# Altium footprint library C655_Main_Board_EK.PcbLib: 44 footprints (part 1 of 3)
Each footprint in its own frame and in the unit in brackets; x right, y up, seen from the top. Pads: shape width x height; smd on the part's side, far side on the other; paste and mask are expansions set on the pad; w line width, h text height; cw(c..) or ccw(c..) is an arc to the next point about the centre after c.
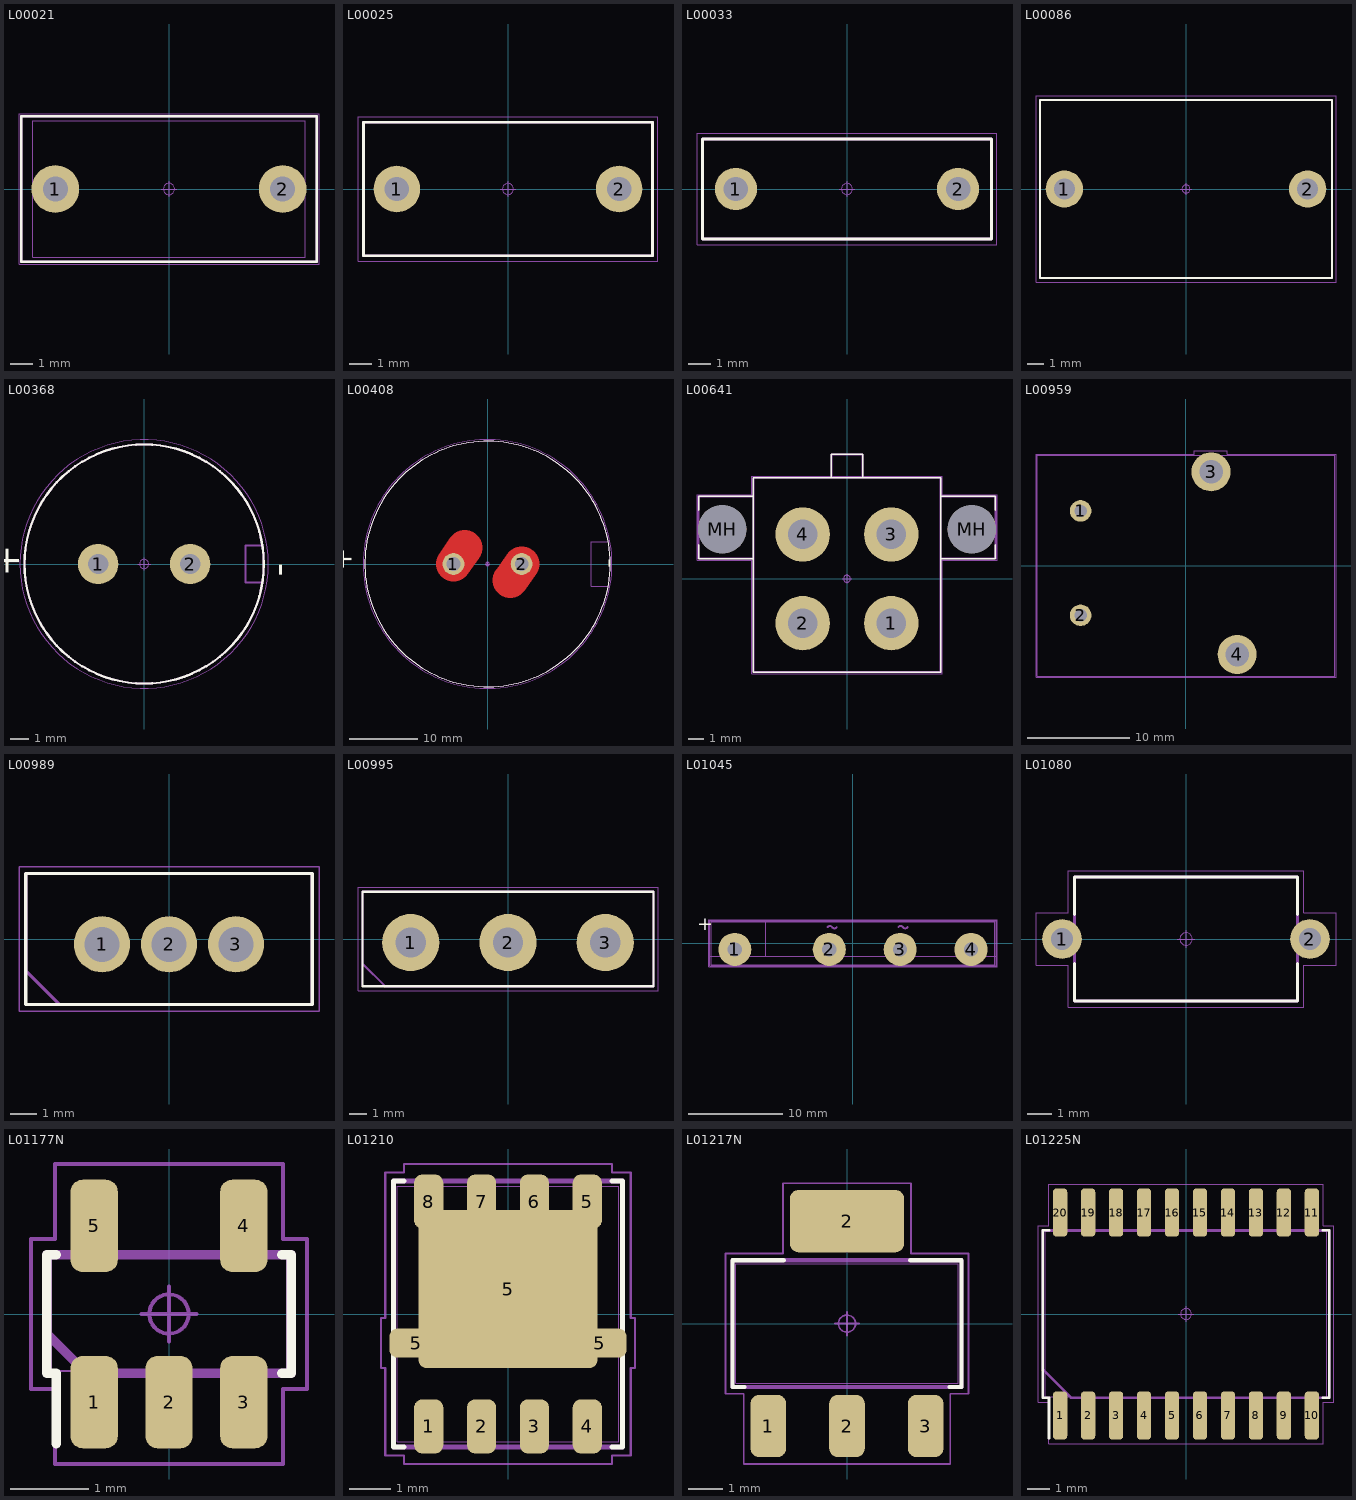
[diagram p0: the footprints below, top view; thin cyan lines are the x and y axes]

## L00021 [mm]
height 12
pads (2):
  round 2.1 hole 1.1: 1(-5,0) 2(5,0)
Top Overlay:
  lines w0.1: -6.5,-3.2 6.5,-3.2 6.5,3.2 -6.5,3.2 -6.5,-3.2
Top Assembly:
  lines w0.12: -6.5,-3.2 6.5,-3.2 6.5,3.2 -6.5,3.2 -6.5,-3.2
  text ".Designator" at -4.572,-0.889 h2
Top Courtyard:
  circle w0.05: c0,0 r0.25
  lines w0.05: -0.35,0 0.35,0 ; 0,-0.35 0,0.35 ; -6.6,-3.3 6.6,-3.3 6.6,3.3 -6.6,3.3 -6.6,-3.3 ; -6,-3 6,-3 6,3 -6,3 -6,-3
3D body "B32921C3104M.step": height 12, standoff -3.6, extent -6.5,-3.2 6.5,3.2

## L00025 [mm] "CAPRR1000W60L1300T600H1100"
height 11
pads (2):
  round 2.1 hole 1.1 paste-2.1: 1(-5,0) 2(5,0)
Top Overlay:
  lines w0.12: -6.5,-3 6.5,-3 6.5,3 -6.5,3 -6.5,-3
Top Assembly:
  lines w0.12: -6.5,-3 6.5,-3 6.5,3 -6.5,3 -6.5,-3
  text ".Designator" at -3.3,-0.6 h1.5
Top Courtyard:
  circle w0.05: c0,0 r0.25
  lines w0.05: -0.35,0 0.35,0 ; 0,-0.35 0,0.35 ; -6.75,-3.25 -6.75,3.25 6.75,3.25 6.75,-3.25 -6.75,-3.25
Mechanical 31:
  circle w0.025: c5,0 r0.325
  circle w0.025: c-5,0 r0.325
  lines w0.025: -6.5,-3 6.5,-3 6.5,3 -6.5,3 -6.5,-3
3D body "CAPRR1000W60L1300T600H1100.STEP": height 11, standoff -2, extent -6.5,-3 6.5,3

## L00033 [mm] "CAPRR1000W60L1300T450H900"
height 9
pads (2):
  round 1.9 hole 1.1 paste-1.9: 1(-5,0) 2(5,0)
Top Overlay:
  lines w0.12: -6.5,-2.25 -6.5,2.25 6.5,2.25 6.5,-2.25 -6.5,-2.25
Top Assembly:
  lines w0.12: -6.5,-2.25 -6.5,2.25 6.5,2.25 6.5,-2.25 -6.5,-2.25
  text ".Designator" at -3.3,-0.6 h1.5
Top Courtyard:
  circle w0.05: c0,0 r0.25
  lines w0.05: -0.35,0 0.35,0 ; 0,-0.35 0,0.35 ; -6.75,-2.5 6.75,-2.5 6.75,2.5 -6.75,2.5 -6.75,-2.5
Mechanical 31:
  circle w0.025: c-5,0 r0.325
  circle w0.025: c5,0 r0.325
  lines w0.025: -6.5,-2.25 -6.5,2.25 6.5,2.25 6.5,-2.25 -6.5,-2.25
3D body "CAPRR1000W60L1300T450H900.STEP": height 9, standoff -2, extent -6.5,-2.25 6.5,2.25

## L00086 [mm] "CAPRR1500W80L1800T1100H1850"
height 18.5
pads (2):
  round 2.3 hole 1.3 paste-2.3: 1(-7.5,0) 2(7.5,0)
Top Overlay:
  lines w0.12: -9,-5.5 9,-5.5 9,5.5 -9,5.5 -9,-5.5
Top Assembly:
  lines w0.12: -9,-5.5 9,-5.5 9,5.5 -9,5.5 -9,-5.5
  text ".Designator" at -3.4,-0.6 h1.5
Top Courtyard:
  circle w0.05: c0,0 r0.25
  lines w0.05: -0.35,0 0.35,0 ; 0,-0.35 0,0.35 ; -9.25,-5.75 -9.25,5.75 9.25,5.75 9.25,-5.75 -9.25,-5.75
Mechanical 31:
  circle w0.025: c7.5,0 r0.425
  circle w0.025: c-7.5,0 r0.425
  lines w0.025: -9,-5.5 9,-5.5 9,5.5 -9,5.5 -9,-5.5
3D body "CAPRR1500W80L1800T1100H1850.STEP": height 18.5, standoff -2, extent -9,-5.5 9,5.5

## L00368 [mm] "CAPPRD500W60D1300H2700"
height 27
pads (2):
  round 2.2 hole 1.1 paste-2.2: 1(-2.5,0) 2(2.5,0)
Top Overlay:
  circle w0.12: c0,0 r6.5
  text "-" at 8,-0.7 h1.5
  text "+" at -6.8,-0.7 h1.5
Top Assembly:
  circle w0.12: c0,0 r6.5
  lines w0.12: 6.4,-1 5.5,-1 5.5,1 6.4,1
  text ".Designator" at -3.3,-0.6 h1.5
  text "+" at -5.1,-0.4 h2
  text "-" at 6.5,-0.2 h2
Top Courtyard:
  circle w0.05: c0,0 r0.25
  circle w0.05: c0,0 r6.75
  lines w0.05: -0.35,0 0.35,0 ; 0,-0.35 0,0.35
Mechanical 31:
  circle w0.025: c0,0 r6.5
  circle w0.025: c2.5,0 r0.325
  circle w0.025: c-2.5,0 r0.325
3D body "CAPPRD500W60D1300H2700.STEP": height 27.01, standoff -2, extent -6.5,-6.5 6.51,6.5

## L00408 [mm] "CAPPRD1000W170D3600H4700"
height 47
pads (2):
  round 3.2 hole 2 paste-3.2: 1(-5,0) 2(5,0)
Top Layer:
  lines w5.2: -4.995,0 -3.345,2.375 ; 3.355,-2.375 5.005,0
Top Overlay:
  circle w0.12: c0,0 r18
  text "-" at 20.005,-0.6 h5
  text "+" at -19,-1 h5
Top Assembly:
  circle w0.12: c0,0 r18
  lines w0.12: 17.705,-3.3 15.205,-3.3 15.205,3.3 17.705,3.3
  text ".Designator" at -3.4,-0.6 h1.5
  text "+" at -14,-1 h5
  text "-" at 17.905,-0.6 h5
Top Courtyard:
  circle w0.05: c0,0 r0.25
  circle w0.05: c0,0 r18.25
  lines w0.05: -0.35,0 0.35,0 ; 0,-0.35 0,0.35
Mechanical 31:
  circle w0.025: c0,0 r18
  circle w0.025: c5,0 r0.9
  circle w0.025: c-5,0 r0.9
3D body "CAPPRD1000W170D3600H4700.STEP": height 47.01, standoff -2, extent -18,-18 18.01,18

## L00641 [mm]
height 15
pads (6):
  round 3.5 / inner round 3.3 / far side round 3.5 hole 1.9: 1(2.85,-2.85) 2(-2.85,-2.85) 3(2.85,2.85) 4(-2.85,2.85)
  round 3.1 hole 3.1 unplated: MH(-8.02,3.18) MH(8.02,3.18)
Top Overlay:
  lines w0.1: -9.55,2.2 -9.55,1.3 -6.025,1.3 ; -9.55,4.4 -9.55,5.3 -6.025,5.3 ; -1,6.5 -1,8 1,8 1,6.5 ; 6.025,1.3 9.55,1.3 9.55,2.2 ; 6.025,5.3 9.55,5.3 9.55,4.4 ; -6.025,-6 6.025,-6 6.025,6.5 -6.025,6.5 -6.025,-6
Top Assembly:
  lines w0.12: -6.025,1.3 -9.55,1.3 -9.55,5.3 -6.025,5.3 ; -1,6.5 -1,8 1,8 1,6.5 ; 6.025,1.3 9.55,1.3 9.55,5.3 6.025,5.3 ; -6.025,-6 -6.025,6.5 6.025,6.5 6.025,-6 -6.025,-6
  text ".Designator" at -4.5,-0.8 h2
Top Courtyard:
  circle w0.05: c0,0 r0.225
  lines w0.05: -0.3,0 0.3,0 ; 0,-0.3 0,0.3 ; -9.65,1.2 -9.65,5.4 -6.125,5.4 -6.125,6.6 6.125,6.6 6.125,5.4 9.65,5.4 9.65,1.2 6.125,1.2 6.125,-6.1 -6.125,-6.1 -6.125,1.2 -9.65,1.2
3D body "1720650004.stp": height 14.78, standoff -3.8, extent -9.571,-6.151 9.521,7.883

## L00959 [mm]
height 15.7
pads (4):
  round 2.1 hole 1.2: 1(-10.26,5.34) 2(-10.26,-4.82)
  round 3.8 hole 2.3: 3(2.44,9.15) 4(4.98,-8.63)
Top Assembly:
  lines w0.12: -14.5,-10.75 -14.5,10.75 14.5,10.75 14.5,-10.75 -14.5,-10.75
  text ".Designator" at -3.4,-0.6 h1.5
Top Courtyard:
  lines w0.05: -14.6,-10.85 14.6,-10.85 14.6,10.85 4,10.85 4,11.2 0.8,11.2 0.8,10.85 -14.6,10.85 -14.6,-10.85
3D body "c-1558661-4-a-3d.stp": height 15.7, standoff -3.25, extent -14.45,-10.7 14.45,10.7

## L00989 [mm] "TO250P1070X490X2010-3"
height 20.1
pads (3):
  round 2.1 hole 1.3 paste-2.1: 1(-2.5,-0.2) 2(0,-0.2) 3(2.5,-0.2)
Top Overlay:
  lines w0.12: -5.35,-2.45 5.35,-2.45 5.35,2.45 -5.35,2.45 -5.35,-2.45
Top Assembly:
  lines w0.12: -5.35,-1.18 -5.35,2.45 5.35,2.45 5.35,-2.45 -4.08,-2.45 -5.35,-1.18
  text ".Designator" at 0,0 h1.2
Top Courtyard:
  circle w0.05: c0,0 r0.25
  lines w0.05: -0.35,0 0.35,0 ; 0,-0.35 0,0.35 ; -5.6,-2.7 -5.6,2.7 5.6,2.7 5.6,-2.7 -5.6,-2.7
Mechanical 31:
  lines w0.025: -5.35,-2.45 5.35,-2.45 5.35,2.45 -5.35,2.45 -5.35,-2.45 ; -2.94,-0.55 -2.94,0.15 -2.06,0.15 -2.06,-0.55 -2.94,-0.55 ; -0.44,-0.55 -0.44,0.15 0.44,0.15 0.44,-0.55 -0.44,-0.55 ; 2.06,-0.55 2.06,0.15 2.94,0.15 2.94,-0.55 2.06,-0.55
3D body "TO250P1070X490X2010-3.STEP": height 20.1, standoff -2, extent -5.35,-2.45 5.35,2.45

## L00995 [mm] "TO545P1630X530X2560-3"
height 25.6
pads (3):
  round 3.2 hole 1.7 paste-3.2: 1(-5.45,-0.2) 2(0,-0.2) 3(5.45,-0.2)
Top Overlay:
  lines w0.12: -8.15,-2.65 -8.15,2.65 8.15,2.65 8.15,-2.65 -8.15,-2.65
Top Assembly:
  lines w0.12: -8.15,-1.38 -6.88,-2.65 8.15,-2.65 8.15,2.65 -8.15,2.65 -8.15,-1.38
  text ".Designator" at -3.4,-0.6 h1.5
Top Courtyard:
  circle w0.05: c0,0 r0.25
  lines w0.05: -0.35,0 0.35,0 ; 0,-0.35 0,0.35 ; -8.4,-2.9 8.4,-2.9 8.4,2.9 -8.4,2.9 -8.4,-2.9
Mechanical 31:
  lines w0.025: -8.15,-2.65 -8.15,2.65 8.15,2.65 8.15,-2.65 -8.15,-2.65 ; -6.115,-0.54 -4.785,-0.54 -4.785,0.14 -6.115,0.14 -6.115,-0.54 ; -0.665,-0.54 0.665,-0.54 0.665,0.14 -0.665,0.14 -0.665,-0.54 ; 4.785,-0.54 6.115,-0.54 6.115,0.14 4.785,0.14 4.785,-0.54
3D body "TO545P1630X530X2560-3.STEP": height 25.6, standoff -2, extent -8.15,-2.65 8.15,2.65

## L01045 [mm]
height 24.5
pads (4):
  round 3.5 hole 1.5 unplated: 1(-12.5,-0.65) 2(-2.5,-0.65) 3(5,-0.65) 4(12.5,-0.65)
Top Overlay:
  text "+" at -16.5,0.9 h2.5
Top Assembly:
  lines w0.12: -15.15,-1.35 15.15,-1.35 ; -9.2,-1.35 -9.2,2.4 ; -15.15,-2.4 -15.15,2.4 15.15,2.4 15.15,-2.4 -15.15,-2.4
  lines w0.2: -2.692,1.7 cw(c-2.446,1.528) -2.2,1.7 ccw(c-1.954,1.872) -1.708,1.7 ; 4.808,1.7 cw(c5.054,1.528) 5.3,1.7 ccw(c5.546,1.872) 5.792,1.7
  text "-" at 11.975,0.725 h1.5
  text "+" at -13.025,0.725 h1.5
  text ".Designator" at -3.4,-0.6 h1.5
Top Courtyard:
  lines w0.05: -15.25,-2.5 -15.25,2.5 15.25,2.5 15.25,-2.5 -15.25,-2.5
Mechanical 31:
  lines w0.05: -15,-2.3 -15,2.3 15,2.3 15,-2.3 -15,-2.3
3D body "GBJ.STP": height 24, standoff -13.5, extent -15,-2.35 15,2.35

## L01080 [mm] "CAPRB1000W60L900T500H1200"
height 12
pads (2):
  round 1.6 hole 0.9 paste-1.6: 1(-5,0) 2(5,0)
Top Overlay:
  lines w0.12: -4.5,-0.98 -4.5,-2.5 4.5,-2.5 4.5,-0.98 ; -4.5,0.98 -4.5,2.5 4.5,2.5 4.5,0.98
Top Assembly:
  lines w0.12: -4.5,-2.5 -4.5,2.5 4.5,2.5 4.5,-2.5 -4.5,-2.5
  text ".Designator" at -3.3,-0.6 h1.5
Top Courtyard:
  circle w0.05: c0,0 r0.25
  lines w0.05: -0.35,0 0.35,0 ; 0,-0.35 0,0.35 ; -6.05,-1.05 -6.05,1.05 -4.75,1.05 -4.75,2.75 4.75,2.75 4.75,1.05 6.05,1.05 6.05,-1.05 4.75,-1.05 4.75,-2.75 -4.75,-2.75 -4.75,-1.05 -6.05,-1.05
Mechanical 31:
  circle w0.025: c-5,0 r0.325
  circle w0.025: c5,0 r0.325
  lines w0.025: -4.5,-2.5 -4.5,2.5 4.5,2.5 4.5,-2.5 -4.5,-2.5
3D body "CAPRB1000W60L900T500H1200.STEP": height 12, standoff -2, extent -5.3,-2.5 5.3,2.5

## L01177N [mm] "SOT23-5P95_275X110L40X37N"
height 1.1
pads (5):
  rrect50% 0.6x1.17 smd: 1(-0.95,-1.12) 2(0,-1.12) 3(0.95,-1.12) 4(0.95,1.12) 5(-0.95,1.12)
Top Overlay:
  lines w0.12: -1.43,-1.645 -1.43,-0.75 -1.55,-0.75 -1.55,0.75 -1.43,0.75 ; 1.43,-0.75 1.55,-0.75 1.55,0.75 1.43,0.75
Top Assembly:
  lines w0.12: -1.55,-0.25 -1.55,0.75 1.55,0.75 1.55,-0.75 -1.05,-0.75 -1.55,-0.25
  text ".Designator" at -2.7,-0.4 h1.2
Top Courtyard:
  circle w0.05: c0,0 r0.25
  lines w0.05: -0.35,0 0.35,0 ; 0,-0.35 0,0.35 ; -1.75,-0.95 -1.45,-0.95 -1.45,-1.905 1.45,-1.905 1.45,-0.95 1.75,-0.95 1.75,0.95 1.45,0.95 1.45,1.905 -1.45,1.905 -1.45,0.95 -1.75,0.95 -1.75,-0.95
Mechanical 31:
  lines w0.025: -1.5,-0.725 1.5,-0.725 1.5,0.725 -1.5,0.725 -1.5,-0.725 ; -1.138,-1.375 -1.138,-0.975 -0.763,-0.975 -0.763,-1.375 -1.138,-1.375 ; -1.138,0.975 -1.138,1.375 -0.763,1.375 -0.763,0.975 -1.138,0.975 ; -0.188,-1.375 -0.188,-0.975 0.188,-0.975 0.188,-1.375 -0.188,-1.375 ; 0.763,-1.375 0.763,-0.975 1.138,-0.975 1.138,-1.375 0.763,-1.375 ; 0.763,0.975 0.763,1.375 1.138,1.375 1.138,0.975 0.763,0.975
3D body "SOT23-5P95_275X110L40X37.STEP": height 1.1, standoff 0, extent -1.55,-1.5 1.55,1.5

## L01210 [mm] "SON8P127_532X615X110L58X42N"
height 1.1
pads (11):
  rrect55% 0.7x1.3 smd: 1(-1.905,-2.7) 2(-0.635,-2.7) 3(0.635,-2.7) 4(1.905,-2.7) 5(1.905,2.7) 6(0.635,2.7) 7(-0.635,2.7) 8(-1.905,2.7)
  rrect55% 1.3x0.7 smd: 5(-2.2,-0.7) 5(2.2,-0.7)
  rrect10% 4.3x3.8 smd: 5(0,0.6)
Top Overlay:
  lines w0.12: -2.5,-3.2 -2.75,-3.2 -2.75,3.2 -2.5,3.2 ; 2.5,-3.2 2.75,-3.2 2.75,3.2 2.5,3.2
Top Assembly:
  lines w0.12: -2.75,-3.2 -2.75,3.2 2.75,3.2 2.75,-3.2 -2.75,-3.2
  text ".Designator" at -2.7,-0.5 h1.2
Top Courtyard:
  circle w0.05: c0,0 r0.25
  lines w0.05: -0.35,0 0.35,0 ; 0,-0.35 0,0.35 ; -3.05,-1.3 -2.95,-1.3 -2.95,-3.4 -2.5,-3.4 -2.5,-3.605 2.5,-3.605 2.5,-3.4 2.95,-3.4 2.95,-1.3 3.05,-1.3 3.05,-0.1 2.95,-0.1 2.95,3.4 2.5,3.4 2.5,3.605 -2.5,3.605 -2.5,3.4 -2.95,3.4 -2.95,-0.1 -3.05,-0.1 -3.05,-1.3
Mechanical 31:
  lines w0.025: -2.662,-3.075 -2.662,3.075 2.662,3.075 2.662,-3.075 -2.662,-3.075 ; -2.117,-3.075 -1.693,-3.075 -1.693,-2.495 -2.117,-2.495 -2.117,-3.075 ; -2.117,2.495 -1.693,2.495 -1.693,3.075 -2.117,3.075 -2.117,2.495 ; -0.847,-3.075 -0.423,-3.075 -0.423,-2.495 -0.847,-2.495 -0.847,-3.075 ; -0.847,2.495 -0.423,2.495 -0.423,3.075 -0.847,3.075 -0.847,2.495 ; 0.423,-3.075 0.847,-3.075 0.847,-2.495 0.423,-2.495 0.423,-3.075 ; 0.423,2.495 0.847,2.495 0.847,3.075 0.423,3.075 0.423,2.495 ; 1.693,-3.075 2.117,-3.075 2.117,-2.495 1.693,-2.495 1.693,-3.075 ; 1.693,2.495 2.117,2.495 2.117,3.075 1.693,3.075 1.693,2.495
3D body "SON8P127_532X615X110L58X42.STEP": height 1.1, standoff 0, extent -2.75,-3.25 2.75,3.25

## L01217N [mm] "SOT223-4P230_700X170L80X75N"
height 1.7
pads (4):
  rrect48% 1.04x1.82 smd: 1(-2.3,-2.995) 2(0,-2.995) 3(2.3,-2.995)
  rrect27% 3.34x1.82 smd: 2(0,2.995)
Top Overlay:
  lines w0.12: -3,-1.85 -3.35,-1.85 -3.35,1.85 -1.85,1.85 ; 1.85,1.85 3.35,1.85 3.35,-1.85 3,-1.85
Top Assembly:
  lines w0.12: -3.35,-1.85 3.35,-1.85 3.35,1.85 -3.35,1.85 -3.35,-1.85
  text ".Designator" at -2.7,-0.5 h1.2
Top Courtyard:
  circle w0.05: c0,0 r0.25
  lines w0.05: -0.35,0 0.35,0 ; 0,-0.35 0,0.35 ; -3.55,-2.05 -3.02,-2.05 -3.02,-4.105 3.02,-4.105 3.02,-2.05 3.55,-2.05 3.55,2.05 1.87,2.05 1.87,4.105 -1.87,4.105 -1.87,2.05 -3.55,2.05 -3.55,-2.05
Mechanical 31:
  lines w0.025: -3.25,-1.75 3.25,-1.75 3.25,1.75 -3.25,1.75 -3.25,-1.75 ; -2.675,-3.5 -2.675,-2.7 -1.925,-2.7 -1.925,-3.5 -2.675,-3.5 ; -1.525,2.7 -1.525,3.5 1.525,3.5 1.525,2.7 -1.525,2.7 ; -0.375,-3.5 -0.375,-2.7 0.375,-2.7 0.375,-3.5 -0.375,-3.5 ; 1.925,-3.5 1.925,-2.7 2.675,-2.7 2.675,-3.5 1.925,-3.5
3D body "SOT223-4P230_700X170L80X75.STEP": height 1.7, standoff 0, extent -3.35,-3.65 3.35,3.65

## L01225N [mm] "SOIC20P127_1280X1035X270L85X40N"
height 2.7
pads (20):
  rrect49% 0.65x2.19 smd: 1(-5.715,-4.605) 2(-4.445,-4.605) 3(-3.175,-4.605) 4(-1.905,-4.605) 5(-0.635,-4.605) 6(0.635,-4.605) 7(1.905,-4.605) 8(3.175,-4.605) 9(4.445,-4.605) 10(5.715,-4.605) 11(5.715,4.605) 12(4.445,4.605) 13(3.175,4.605) 14(1.905,4.605) 15(0.635,4.605) 16(-0.635,4.605) 17(-1.905,4.605) 18(-3.175,4.605) 19(-4.445,4.605) 20(-5.715,4.605)
Top Overlay:
  lines w0.12: -6.22,-5.64 -6.22,-3.8 -6.5,-3.8 -6.5,3.8 -6.22,3.8 ; 6.22,-3.8 6.5,-3.8 6.5,3.8 6.22,3.8
Top Assembly:
  lines w0.12: -6.5,-2.53 -5.23,-3.8 6.5,-3.8 6.5,3.8 -6.5,3.8 -6.5,-2.53
  text ".Designator" at -3.3,-0.6 h1.5
Top Courtyard:
  circle w0.05: c0,0 r0.25
  lines w0.05: -0.35,0 0.35,0 ; 0,-0.35 0,0.35 ; -6.7,-4 -6.7,4 -6.24,4 -6.24,5.9 6.24,5.9 6.24,4 6.7,4 6.7,-4 6.24,-4 6.24,-5.9 -6.24,-5.9 -6.24,-4 -6.7,-4
Mechanical 31:
  lines w0.025: -6.4,-3.75 -6.4,3.75 6.4,3.75 6.4,-3.75 -6.4,-3.75 ; -5.915,-5.175 -5.515,-5.175 -5.515,-4.325 -5.915,-4.325 -5.915,-5.175 ; -5.915,4.325 -5.515,4.325 -5.515,5.175 -5.915,5.175 -5.915,4.325 ; -4.645,-5.175 -4.245,-5.175 -4.245,-4.325 -4.645,-4.325 -4.645,-5.175 ; -4.645,4.325 -4.245,4.325 -4.245,5.175 -4.645,5.175 -4.645,4.325 ; -3.375,-5.175 -2.975,-5.175 -2.975,-4.325 -3.375,-4.325 -3.375,-5.175 ; -3.375,4.325 -2.975,4.325 -2.975,5.175 -3.375,5.175 -3.375,4.325 ; -2.105,-5.175 -1.705,-5.175 -1.705,-4.325 -2.105,-4.325 -2.105,-5.175 ; -2.105,4.325 -1.705,4.325 -1.705,5.175 -2.105,5.175 -2.105,4.325 ; -0.835,-5.175 -0.435,-5.175 -0.435,-4.325 -0.835,-4.325 -0.835,-5.175 ; -0.835,4.325 -0.435,4.325 -0.435,5.175 -0.835,5.175 -0.835,4.325 ; 0.435,-5.175 0.835,-5.175 0.835,-4.325 0.435,-4.325 0.435,-5.175 ; 0.435,4.325 0.835,4.325 0.835,5.175 0.435,5.175 0.435,4.325 ; 1.705,-5.175 2.105,-5.175 2.105,-4.325 1.705,-4.325 1.705,-5.175 ; 1.705,4.325 2.105,4.325 2.105,5.175 1.705,5.175 1.705,4.325 ; 2.975,-5.175 3.375,-5.175 3.375,-4.325 2.975,-4.325 2.975,-5.175 ; 2.975,4.325 3.375,4.325 3.375,5.175 2.975,5.175 2.975,4.325 ; 4.245,-5.175 4.645,-5.175 4.645,-4.325 4.245,-4.325 4.245,-5.175 ; 4.245,4.325 4.645,4.325 4.645,5.175 4.245,5.175 4.245,4.325 ; 5.515,-5.175 5.915,-5.175 5.915,-4.325 5.515,-4.325 5.515,-5.175 ; 5.515,4.325 5.915,4.325 5.915,5.175 5.515,5.175 5.515,4.325
3D body "SOIC20P127_1280X1035X270L85X40.STEP": height 2.7, standoff 0, extent -6.5,-5.35 6.5,5.35